# Altium footprint library robot.PcbLib: 32 footprints (part 1 of 2)
Each footprint in its own frame and in the unit in brackets; x right, y up, seen from the top. Pads: shape width x height; smd on the part's side, far side on the other; paste and mask are expansions set on the pad; w line width, h text height; cw(c..) or ccw(c..) is an arc to the next point about the centre after c.
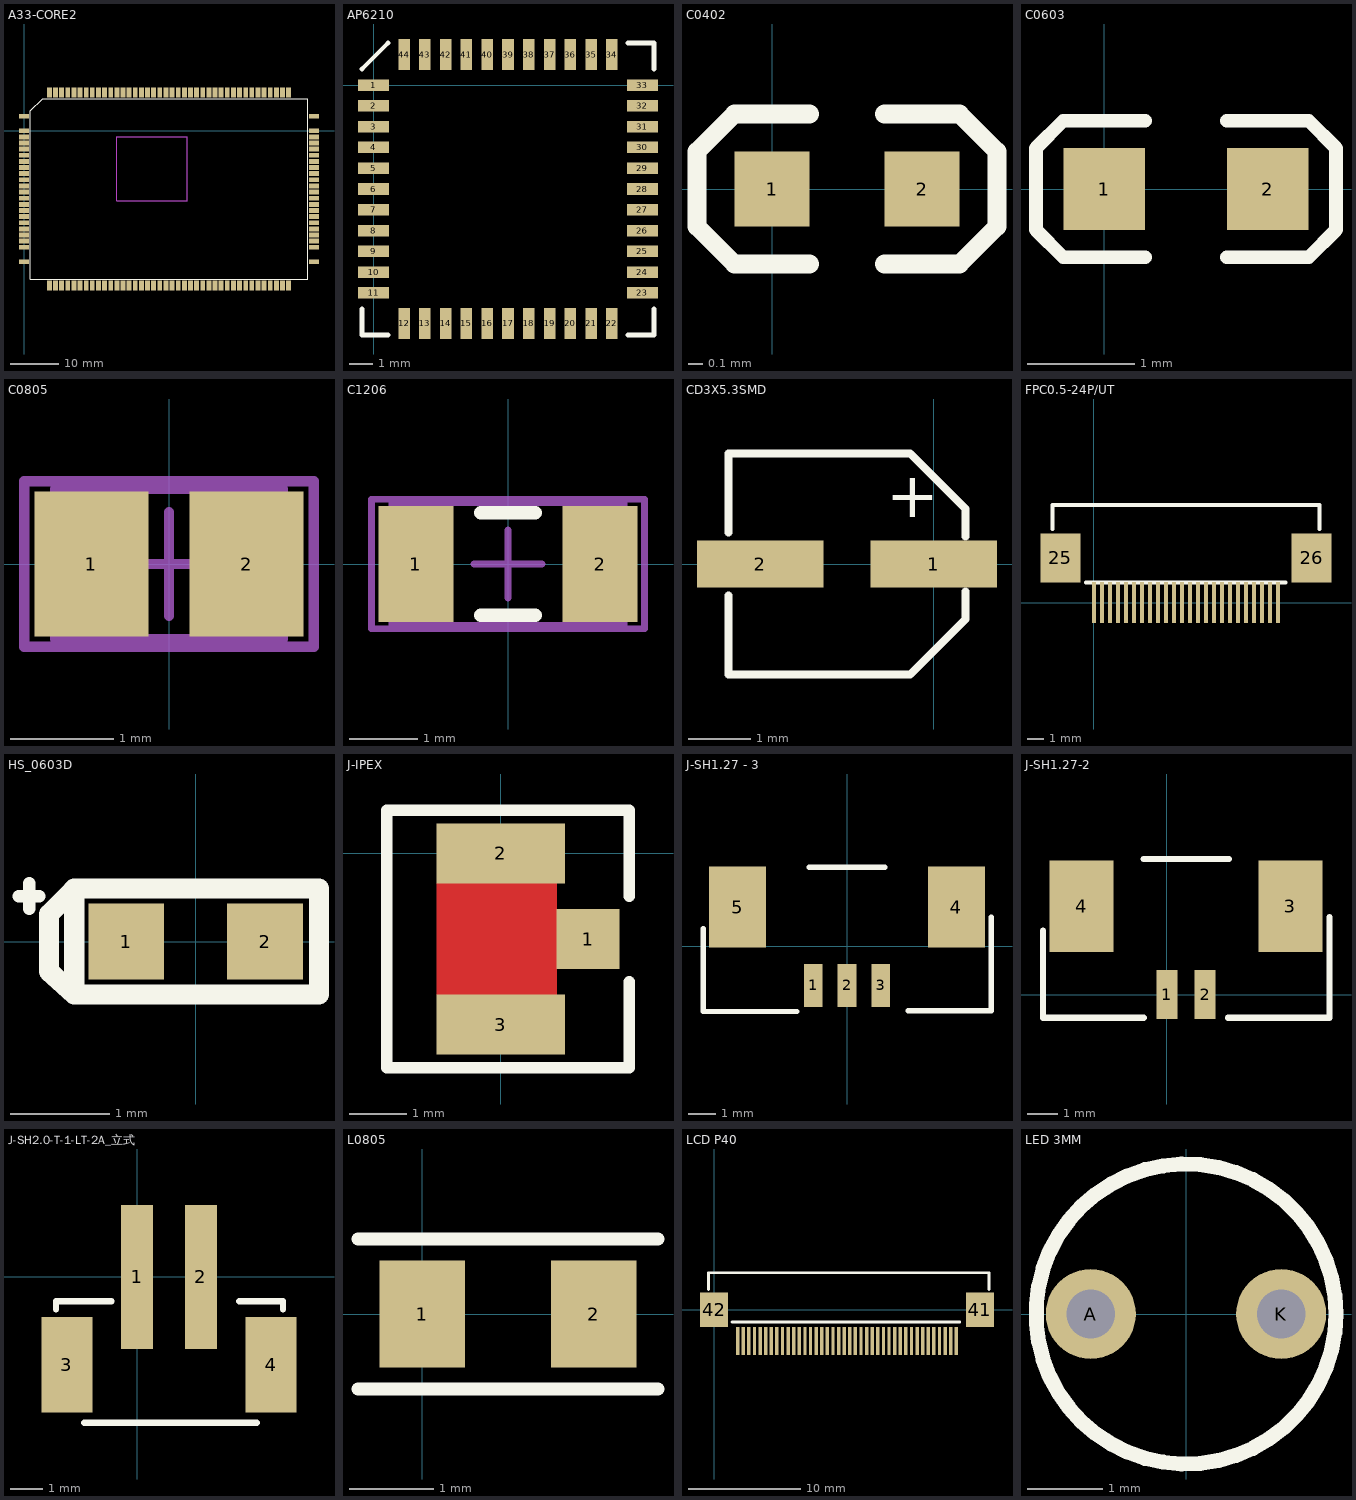
[diagram p0: the footprints below, top view; thin cyan lines are the x and y axes]

## A33-CORE2 [mm]
pads (124):
  rect 2.1x1 smd: 1(0,0) 2(0,-1.27) 3(0,-2.54) 4(0,-3.81) 5(0,-5.08) 6(0,-6.35) 7(0,-7.62) 8(0,-8.89) 9(0,-10.16) 10(0,-11.43) 11(0,-12.7) 12(0,-13.97) 13(0,-15.24) 14(0,-16.51) 15(0,-17.78) 16(0,-19.05) 17(0,-20.32) 18(0,-21.59) 19(0,-22.86) 20(0,-24.13) 61(60,-24.13) 62(60,-22.86) 63(60,-21.59) 64(60,-20.32) 65(60,-19.05) 66(60,-17.78) 67(60,-16.51) 68(60,-15.24) 69(60,-13.97) 70(60,-12.7) 71(60,-11.43) 72(60,-10.16) 73(60,-8.89) 74(60,-7.62) 75(60,-6.35) 76(60,-5.08) 77(60,-3.81) 78(60,-2.54) 79(60,-1.27) 80(60,0) 121(0,3) 122(0,-27.13) 123(60,-27.13) 124(60,3)
  rect 1x2.1 smd: 21(5.235,-32.065) 22(6.505,-32.065) 23(7.775,-32.065) 24(9.045,-32.065) 25(10.315,-32.065) 26(11.585,-32.065) 27(12.855,-32.065) 28(14.125,-32.065) 29(15.395,-32.065) 30(16.665,-32.065) 31(17.935,-32.065) 32(19.205,-32.065) 33(20.475,-32.065) 34(21.745,-32.065) 35(23.015,-32.065) 36(24.285,-32.065) 37(25.555,-32.065) 38(26.825,-32.065) 39(28.095,-32.065) 40(29.365,-32.065) 41(30.635,-32.065) 42(31.905,-32.065) 43(33.175,-32.065) 44(34.445,-32.065) 45(35.715,-32.065) 46(36.985,-32.065) 47(38.255,-32.065) 48(39.525,-32.065) 49(40.795,-32.065) 50(42.065,-32.065) 51(43.335,-32.065) 52(44.605,-32.065) 53(45.875,-32.065) 54(47.145,-32.065) 55(48.415,-32.065) 56(49.685,-32.065) 57(50.955,-32.065) 58(52.225,-32.065) 59(53.495,-32.065) 60(54.765,-32.065) 81(54.765,7.935) 82(53.495,7.935) 83(52.225,7.935) 84(50.955,7.935) 85(49.685,7.935) 86(48.415,7.935) 87(47.145,7.935) 88(45.875,7.935) 89(44.605,7.935) 90(43.335,7.935) 91(42.065,7.935) 92(40.795,7.935) 93(39.525,7.935) 94(38.255,7.935) 95(36.985,7.935) 96(35.715,7.935) 97(34.445,7.935) 98(33.175,7.935) 99(31.905,7.935) 100(30.635,7.935) 101(29.365,7.935) 102(28.095,7.935) 103(26.825,7.935) 104(25.555,7.935) 105(24.285,7.935) 106(23.015,7.935) 107(21.745,7.935) 108(20.475,7.935) 109(19.205,7.935) 110(17.935,7.935) 111(16.665,7.935) 112(15.395,7.935) 113(14.125,7.935) 114(12.855,7.935) 115(11.585,7.935) 116(10.315,7.935) 117(9.045,7.935) 118(7.775,7.935) 119(6.505,7.935) 120(5.235,7.935)
Top Overlay:
  lines w0.254: 1.3,-30.765 58.7,-30.765 58.7,6.635 3.84,6.635 1.3,4.095 1.3,-30.765
Keep-Out Layer:
  lines w0.254: 19.2,-14.465 19.2,-1.265 33.8,-1.265 33.8,-14.465 19.2,-14.465
Mechanical 1:
  lines w0.254: 19.2,-14.465 19.2,-1.265 33.8,-1.265 33.8,-14.465 19.2,-14.465
3D body: height 1.5, standoff 0.1, extent 0,-32.065 59.69,7.935

## AP6210 [mm]
pads (44):
  rect 1.35x0.5 smd: 1(0,0) 2(0,-0.9) 3(0,-1.8) 4(0,-2.7) 5(0,-3.6) 6(0,-4.5) 7(0,-5.4) 8(0,-6.3) 9(0,-7.2) 10(0,-8.1) 11(0,-9) 23(11.65,-9) 24(11.65,-8.1) 25(11.65,-7.2) 26(11.65,-6.3) 27(11.65,-5.4) 28(11.65,-4.5) 29(11.65,-3.6) 30(11.65,-2.7) 31(11.65,-1.8) 32(11.65,-0.9) 33(11.65,0)
  rect 0.5x1.35 smd: 12(1.325,-10.325) 13(2.225,-10.325) 14(3.125,-10.325) 15(4.025,-10.325) 16(4.925,-10.325) 17(5.825,-10.325) 18(6.725,-10.325) 19(7.625,-10.325) 20(8.525,-10.325) 21(9.425,-10.325) 22(10.325,-10.325) 34(10.325,1.325) 35(9.425,1.325) 36(8.525,1.325) 37(7.625,1.325) 38(6.725,1.325) 39(5.825,1.325) 40(4.925,1.325) 41(4.025,1.325) 42(3.125,1.325) 43(2.225,1.325) 44(1.325,1.325)
Top Overlay:
  lines w0.2: -0.5,-9.7 -0.5,-10.825 0.625,-10.825 ; -0.5,0.7 0.625,1.825 ; 11.025,-10.825 12.15,-10.825 12.15,-9.7 ; 11.025,1.825 12.15,1.825 12.15,0.7 ; 0.625,1.825 0.625,1.825

## C0402 [mil]
height 10
pads (2):
  rect 20x20 smd: 1(0,0) 2(40,0)
Top Overlay:
  lines w5: 10,-20 -10,-20 -20,-10 -20,10 -10,20 10,20 ; 30,-20 50,-20 60,-10 60,-5 60,10 50,20 30,20
3D body "C0402.STEP": height 19.84, standoff 0.16, extent 0.32,-10 39.69,10.08

## C0603 [mil]
height 12
pads (2):
  rect 30x30 smd: 1(0,0) 2(60,0)
Top Overlay:
  lines w5: 15,-25 -15,-25 -25,-15 -25,15 -15,25 15,25 ; 45,-25 75,-25 85,-15 85,15 75,25 45,25
3D body "C0603.STEP": height 11.89, standoff 0, extent -1.5,-15.5 61.5,16

## C0805 [mm] "Chip Capacitor, Body 2.0x1.3mm, IPC High Density"
height 1.4
pads (2):
  rect 1.1x1.4 smd: 1(-0.75,0) 2(0.75,0)
Mechanical 13:
  lines w0.1: -1.1,-0.725 -1.1,0.725 1.1,0.725 1.1,-0.725 -1.1,-0.725
Mechanical 15:
  lines w0.1: -0.5,0 0.5,0 ; 0,-0.5 0,0.5 ; -1.4,-0.8 -1.4,0.8 1.4,0.8 1.4,-0.8 -1.4,-0.8
3D body: height 1.4, standoff 0, extent -1.1,-0.725 1.1,0.725

## C1206 [mm] "Chip Capacitor, Body 3.2x1.6mm, IPC High Density"
height 1.3
pads (2):
  rect 1.1x1.7 smd: 1(-1.35,0) 2(1.35,0)
Top Overlay:
  lines w0.2: -0.4,-0.75 0.4,-0.75 ; -0.4,0.75 0.4,0.75
Mechanical 13:
  lines w0.1: -1.7,-0.9 -1.7,0.9 1.7,0.9 1.7,-0.9 -1.7,-0.9
Mechanical 15:
  lines w0.1: -0.5,0 0.5,0 ; 0,-0.5 0,0.5 ; -2,-0.95 -2,0.95 2,0.95 2,-0.95 -2,-0.95
3D body: height 1.3, standoff 0, extent -1.7,-0.9 1.7,0.9

## CD3X5.3SMD [mil] "A"
pads (2):
  rect 80x30 smd: 1(0,0) 2(-110,0)
Top Overlay:
  lines w5: -130,-20 -130,-70 -15,-70 20,-35 20,-17.5 ; -130,20 -130,70 -15,70 20,35 20,17.5
  text "+" at -30,20 h50
3D body "SL-A-3x5.3.STEP": height 212.6, standoff 0, extent -125.87,-65 15.87,64.92

## FPC0.5-24P/UT [mm]
pads (26):
  rect 0.25x2.54 smd: 1(0,0) 2(0.5,0) 3(1,0) 4(1.5,0) 5(2,0) 6(2.5,0) 7(3,0) 8(3.5,0) 9(4,0) 10(4.5,0) 11(5,0) 12(5.5,0) 13(6,0) 14(6.5,0) 15(7,0) 16(7.5,0) 17(8,0) 18(8.5,0) 19(9,0) 20(9.5,0) 21(10,0) 22(10.5,0) 23(11,0) 24(11.5,0)
  rect 2.5x3.048 smd: 25(-2.1,2.783) 26(13.6,2.783)
Top Overlay:
  lines w0.254: -2.6,4.6 -2.6,6.085 14.1,6.085 14.1,4.6 ; -0.5,1.259 11.959,1.259

## HS_0603D [mil]
height 100
pads (2):
  rect 30x30 smd: 1(-27.5,0) 2(27.5,0)
Top Overlay:
  lines w5: -70,18 -62,18 ; -66,13 -66,23
  lines w8: -49,20 -58.12,10.88 -58.12,-11.87 -48.12,-21 ; -48.12,20 -48.12,-21 ; -48.12,21 48.88,21 48.88,-21 -48.12,-21

## J-IPEX [mm]
pads (3):
  rect 1.1x1.05 smd: 1(1.525,-1.5)
  rect 2.25x1.05 smd: 2(0,0) 3(0,-3)
Top Layer:
  pour cut-out: -1.125,-0.525 -1.125,-2.475 0.975,-2.475 0.975,-0.525
Top Overlay:
  lines w0.2: 2.25,-2.25 2.25,-3.75 1.5,-3.75 -2,-3.75 -2,0.75 -1.5,0.75 1.5,0.75 2.25,0.75 2.25,-0.75

## J-SH1.27 - 3 [mm]
pads (5):
  rect 0.7x1.6 smd: 1(-1.25,-1.45) 2(0,-1.45) 3(1.25,-1.45)
  rect 2.1x3 smd: 4(4.05,1.45) 5(-4.05,1.45)
Top Overlay:
  lines w0.2: -5.314,0.65 -5.314,-2.413 -1.85,-2.413 ; -1.403,2.921 1.397,2.921 ; 2.271,-2.393 5.334,-2.393 5.334,1.071

## J-SH1.27-2 [mm]
pads (4):
  rect 0.7x1.6 smd: 1(0,0) 2(1.25,0)
  rect 2.1x3 smd: 3(4.05,2.9) 4(-2.8,2.9)
Top Overlay:
  lines w0.2: -4.064,2.1 -4.064,-0.762 -0.762,-0.762 ; -0.762,4.445 2.038,4.445 ; 2,-0.762 5.334,-0.762 5.334,2.54

## J-SH2.0-T-1-LT-2A_立式 [mm]
pads (4):
  rect 1x4.5 smd: 1(0,0) 2(2,0)
  rect 1.6x3 smd: 3(-2.2,-2.75) 4(4.2,-2.75)
Top Overlay:
  lines w0.2: -2.54,-1.016 -2.54,-0.762 -0.8,-0.762 ; -1.651,-4.572 3.746,-4.572 ; 3.2,-0.762 4.572,-0.762 4.572,-1.016

## L0805 [mil]
pads (2):
  rect 40x50 smd: 1(0,0) 2(80,0)
Top Overlay:
  lines w6: -30,-35 60,-35 110,-35 ; -30,35 60,35 110,35
3D body "R0805.STEP": height 21.65, standoff 0, extent 0.63,-25 79.37,24.61

## LCD P40 [mm] "0.5MM 下接"
height 0.305
pads (42):
  rect 0.3x2.54 smd: 1(2.1,-2.783) 2(2.6,-2.783) 3(3.1,-2.783) 4(3.6,-2.783) 5(4.1,-2.783) 6(4.6,-2.783) 7(5.1,-2.783) 8(5.6,-2.783) 9(6.1,-2.783) 10(6.6,-2.783) 11(7.1,-2.783) 12(7.6,-2.783) 13(8.1,-2.783) 14(8.6,-2.783) 15(9.1,-2.783) 16(9.6,-2.783) 17(10.1,-2.783) 18(10.6,-2.783) 19(11.1,-2.783) 20(11.6,-2.783) 21(12.1,-2.783) 22(12.6,-2.783) 23(13.1,-2.783) 24(13.6,-2.783) 25(14.1,-2.783) 26(14.6,-2.783) 27(15.1,-2.783) 28(15.6,-2.783) 29(16.1,-2.783) 30(16.6,-2.783) 31(17.1,-2.783) 32(17.6,-2.783) 33(18.1,-2.783) 34(18.6,-2.783) 35(19.1,-2.783) 36(19.6,-2.783) 37(20.1,-2.783) 38(20.6,-2.783) 39(21.1,-2.783) 40(21.6,-2.783)
  rect 2.5x3.048 smd: 41(23.7,0) 42(0,0)
Top Overlay:
  lines w0.254: -0.5,1.817 -0.5,3.302 24.5,3.302 24.5,1.817 ; 1.6,-1.1 21.9,-1.1

## LED 3MM [mm]
pads (2):
  round 1.2 hole 0.65: A(-1.27,0) K(1.27,0)
Top Overlay:
  circle w0.2: c0,0 r2